# EAGLE library part GS4915 (library gennum)
ClockCleaner Source: http://www.gennum.com/video/pdf/39145DOC.pdf
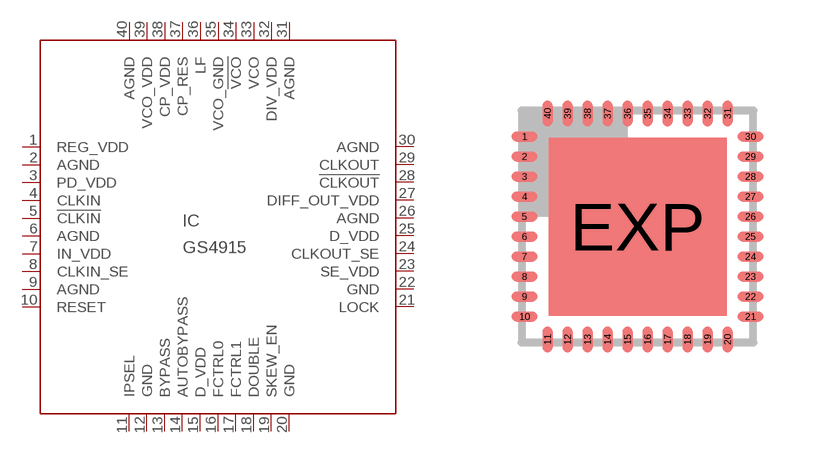
[diagram p3: symbol with the pads of QFN40-6X6; footprint QFN40-6X6]

Designator prefix IC

## GS4915  [QFN40-6X6]
1  REG_VDD  pwr
2  AGND  pwr
3  PD_VDD  pwr
4  CLKIN  in
5  !CLKIN  in
6  AGND  pwr
7  IN_VDD  pwr
8  CLKIN_SE  in
9  AGND  pwr
10  RESET  in
11  IPSEL  in
12  GND  pwr
13  BYPASS  in
14  AUTOBYPASS  in
15  D_VDD  pwr
16  FCTRL0  in
17  FCTRL1  in
18  DOUBLE  in
19  SKEW_EN  in
20  GND  pwr
21  LOCK  out
22  GND  pwr
23  SE_VDD  pwr
24  CLKOUT_SE  out
25  D_VDD  pwr
26  AGND  pwr
27  DIFF_OUT_VDD  pwr
28  !CLKOUT  out
29  CLKOUT  out
30  AGND  pwr
31  AGND  pwr
32  DIV_VDD  pwr
33  VCO  in
34  !VCO  in
35  VCO_GND  pwr
36  LF  in
37  CP_RES  in
38  CP_VDD  pwr
39  VCO_VDD  pwr
40  AGND  pwr

## Footprint QFN40-6X6 (pad centres in mm)
QFN40 6x6 mm Source: http://www.gennum.com/video/pdf/39145DOC.pdf
smd 0.65 x 0.25: 1 -2.825,2.25; 2 -2.825,1.75; 3 -2.825,1.25; 4 -2.825,0.75; 5 -2.825,0.25; 6 -2.825,-0.25; 7 -2.825,-0.75; 8 -2.825,-1.25; 9 -2.825,-1.75; 10 -2.825,-2.25; 21 2.825,-2.25; 22 2.825,-1.75; 23 2.825,-1.25; 24 2.825,-0.75; 25 2.825,-0.25; 26 2.825,0.25; 27 2.825,0.75; 28 2.825,1.25; 29 2.825,1.75; 30 2.825,2.25
smd 0.25 x 0.65: 11 -2.25,-2.825; 12 -1.75,-2.825; 13 -1.25,-2.825; 14 -0.75,-2.825; 15 -0.25,-2.825; 16 0.25,-2.825; 17 0.75,-2.825; 18 1.25,-2.825; 19 1.75,-2.825; 20 2.25,-2.825; 31 2.25,2.825; 32 1.75,2.825; 33 1.25,2.825; 34 0.75,2.825; 35 0.25,2.825; 36 -0.25,2.825; 37 -0.75,2.825; 38 -1.25,2.825; 39 -1.75,2.825; 40 -2.25,2.825
smd 4.45 x 4.45: EXP 0,0